# Altium schematic symbol library wifi_alarm_clock.SchLib: 19 symbols
Pins are listed as number, name and electrical type; pins without a type are passive.

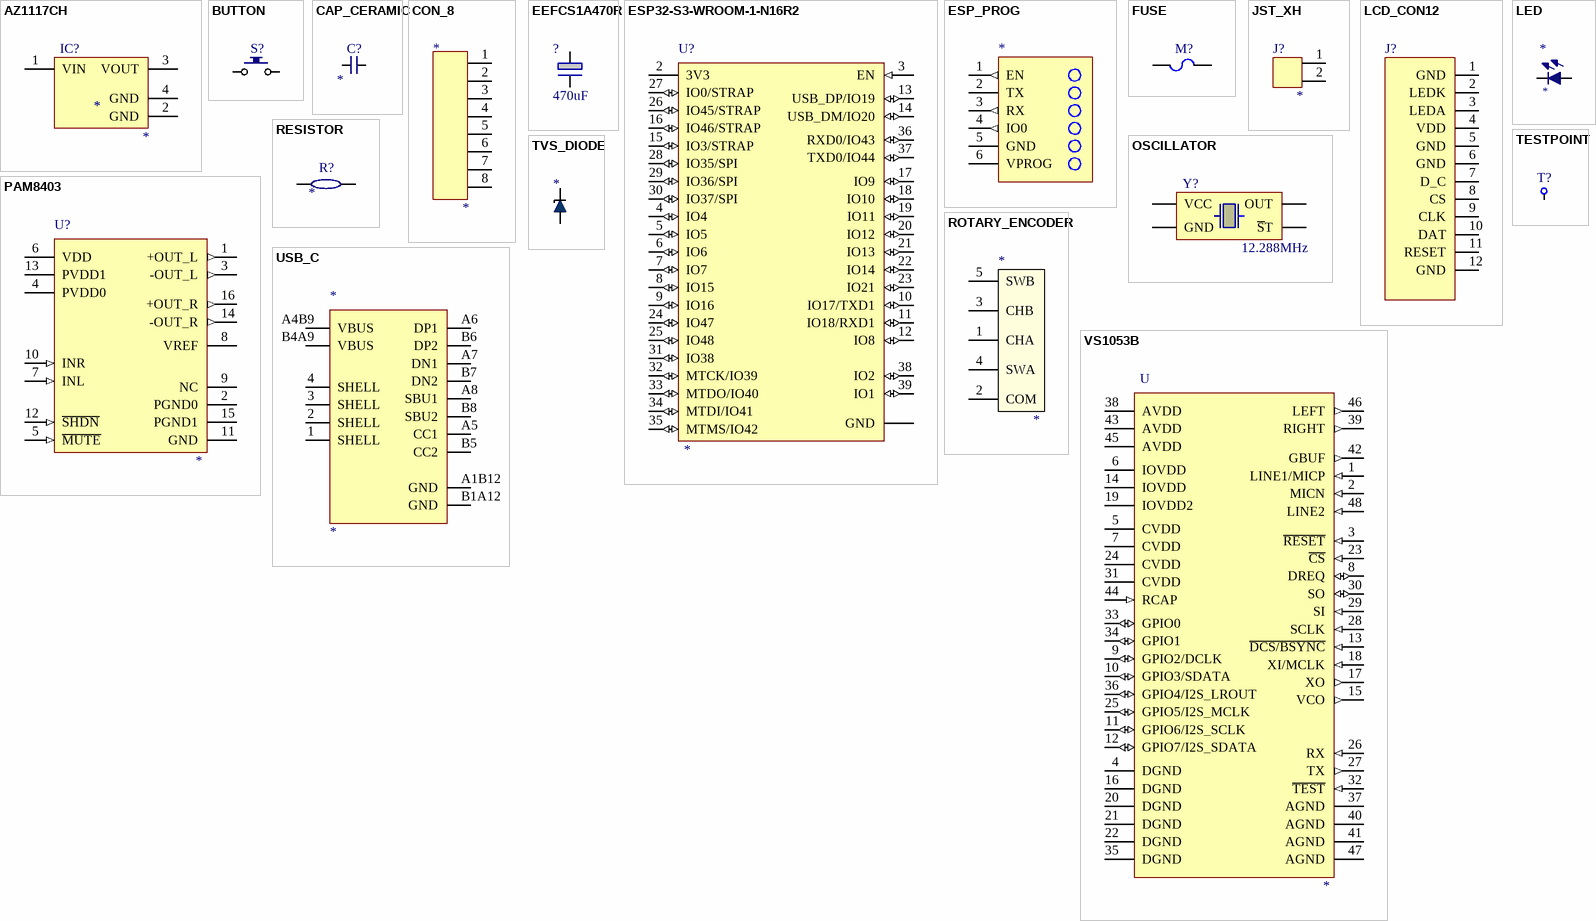
[diagram p0: symbols AZ1117CH to VS1053B]

## AZ1117CH
designator IC?
VOUT: *
footprint SOT230P700X180-4N (SOT223, 4-Leads, Body 6.50x7.00mm (avg), Pitch 2.30mm, IPC Medium Density)
pins: 1 VIN, 2 GND, 3 VOUT, 4 GND

## BUTTON
designator S?, comment 4-1437565-1  (value not drawn)
6x6mm tactile switch SPST_NO; Manufacturer_Name: TE Connectivity; Allied_Number: R1117787; RS Part Number: 1616046; Manufacturer_Part_Number: 4-1437565-1; Datasheet Link: http://uk.rs-online.com/web/p/products/1616046
footprint FSM-SWITCH
pins: 1, 2

## CAP_CERAMIC
designator C?
MLCC; Value: *; LCSC Part Number: *; Tolerance: *; Voltage: *; Package: *; Dielectric: *
footprint CAP 0805_2012 (Chip Capacitor, 2-Leads, Body 2.00x1.20mm, IPC Medium Density)
footprint CAP 0603_1608 (Chip Capacitor, 2-Leads, Body 1.60x0.80mm, IPC Medium Density)
footprint CAP 1210_3225 (Chip Capacitor, 2-Leads, Body 3.20x1.60mm, IPC High Density)
pins: 1 A, 2 B

## CON_8
designator *
footprint CON8
pins: 1, 2, 3, 4, 5, 6, 7, 8

## EEFCS1A470R
designator ?, comment 470uF
Electrolytic Capacitor; MPN: EEFCS1A470R; Voltage: 6.3V; Vendor: Panasonic; TYPE: Polymer; Value: 470uF
footprint CAPMP7343X11L (Molded Capacitor, 2-Leads, Body 7.30x4.30mm, IPC High Density)
pins: 1 +, 2 -

## ESP32-S3-WROOM-1-N16R2
designator U?
Bluetooth, WiFi 802.11b/g/n, Bluetooth v5.0 Transceiver Module 2.4GHz PCB Trace Surface Mount; MF: Espressif Systems; MP: ESP32S3WROOM1N16R2; SnapEDA_Link: https://www.snapeda.com/parts/ESP32S3WROOM1N16R2/Espressif+Systems/view-part/?ref=snap; Package: NON STANDARD Espressif Systems; Value: *; Check_prices: https://www.snapeda.com/parts/ESP32S3WROOM1N16R2/Espressif+Systems/view-part/?ref=eda
footprint XCVR_ESP32-S3-WROOM-1-N16R2
pins: 2 3V3 (power), 3 EN (in), 4 IO4 (io), 5 IO5 (io), 6 IO6 (io), 7 IO7 (io), 8 IO15 (io), 9 IO16 (io), 10 IO17/TXD1 (io), 11 IO18/RXD1 (io), 12 IO8 (io), 13 USB_DP/IO19 (io), 14 USB_DM/IO20 (io), 15 IO3/STRAP (io), 16 IO46/STRAP (io), 17 IO9 (io), 18 IO10 (io), 19 IO11 (io), 20 IO12 (io), 21 IO13 (io), 22 IO14 (io), 23 IO21 (io), 24 IO47 (io), 25 IO48 (io), 26 IO45/STRAP (io), 27 IO0/STRAP (io), 28 IO35/SPI (io), 29 IO36/SPI (io), 30 IO37/SPI (io), 31 IO38 (io), 32 MTCK/IO39 (io), 33 MTDO/IO40 (io), 34 MTDI/IO41 (io), 35 MTMS/IO42 (io), 36 RXD0/IO43 (io), 37 TXD0/IO44 (io), 38 IO2 (io), 39 IO1 (io), GND (power)

## ESP_PROG
designator *  (value not drawn)  (no BOM)
footprint IDC3X2
footprint ESP_PROG
pins: 1 EN (out), 2 TX, 3 RX (out), 4 IO0 (out), 5 GND, 6 VPROG

## FUSE
designator M?  (value not drawn)
footprint FUSE 0603_1608 0.5MM (Chip Fuse 1.5A AC 5V DC, 2-Leads, Body 1.54x0.85mm)
pins: 1, 2

## JST_XH
designator J?
footprint JST_XH_x2
pins: 1, 2

## LCD_CON12
designator J?  (value not drawn)
footprint LCD_CON12
pins: 1 GND, 2 LEDK, 3 LEDA, 4 VDD, 5 GND, 6 GND, 7 D_C, 8 CS, 9 CLK, 10 DAT, 11 RESET, 12 GND

## LED
designator *
LED; Value: *; LCSC Part Number: *
footprint SMT_LED 0603_RED (Chip Diode, 2-Leads, Body 1.60x0.80mm, IPC Medium Density)
footprint LED 5mm through hole (5MM through hole LED)
pins: 1 ANODE "TP", 2 CATHODE "TP"

## OSCILLATOR
designator Y?, comment 12.288MHz
SMT Crystal; Value: 12.288MHz
footprint NDK NX2520SA (Crystal, 4-Leads, Body 2.00x2.50mm, Pitch 1.70mm, IPC Medium Density)
footprint NDK NX3225GA (Crystal, 4-Leads, Body 2.50x3.20mm, Pitch 2.20mm, IPC Medium Density)
pins: 1 ~{S}T, 2 GND, 3 OUT, 4 VCC

## PAM8403
designator U?
Audio Amp Speaker 2-CH Stereo 3.2W Class-D 16-Pin SOP T/R; MP: PAM8403; MF: Diodes Zetex; Check_prices: https://www.snapeda.com/parts/PAM8403/Zetex/view-part/?ref=eda; Package: None; Value: *; Availability: In Stock; SnapEDA_Link: https://www.snapeda.com/parts/PAM8403/Zetex/view-part/?ref=snap; Price: None
footprint SOIC127P600X175-16N (SOIC, 16-Leads, Body 9.90x3.90mm, Pitch 1.27mm, IPC Medium Density)
pins: 1 +OUT_L (out), 2 PGND0 (power), 3 -OUT_L (out), 4 PVDD0 (power), 5 ~{MUTE} (in), 6 VDD (power), 7 INL (in), 8 VREF, 9 NC, 10 INR (in), 11 GND (power), 12 ~{SHDN} (in), 13 PVDD1 (power), 14 -OUT_R (out), 15 PGND1 (power), 16 +OUT_R (out)

## RESISTOR
designator R?
Resistor; Value: *; LCSC Part Number: *; Tolerance: *; Package: *; Power: *
footprint RES 0603_1608 (Chip Resistor, 2-Leads, Body 1.60x0.80mm, IPC Medium Density)
pins: 1 A, 2 B

## ROTARY_ENCODER
designator *
Rotary Encoder
footprint ENCODER (Rotary encoder)
pins: 1 CHA, 2 COM, 3 CHB, 4 SWA, 5 SWB

## TESTPOINT
designator T?  (value not drawn)
footprint TESTPOINT_1MM
footprint TESTPOINT_TH
pins: 1

## TVS_DIODE
designator *  (value not drawn)
footprint SODFL98X40-2L (SODFL, 0.6x1.0mm)
pins: 1 K, 2 A

## USB_C
designator *
footprint USB-C-SMD_G-SWITCH_GT-USB-7010ASV
pins: 1 SHELL, 2 SHELL, 3 SHELL, 4 SHELL, A1B12 GND, A4B9 VBUS, A5 CC1, A6 DP1, A7 DN1, A8 SBU1, B1A12 GND, B4A9 VBUS, B5 CC2, B6 DP2, B7 DN2, B8 SBU2

## VS1053B
designator U
VS1053B Music Maker Audio Feather Platform Evaluation Expansion Board; MF: SparkFun Electronics; MP: VS1053B; Price: None; SnapEDA_Link: https://www.snapeda.com/parts/VS1053B/SparkFun%20Electronics/view-part/525112/?ref=snap; Availability: Unavailable; Value: *; Package: None
footprint CQFP50P900X900X140-48N (CQFP, 48-Leads, Body 9.00x9.00mm, Pitch 0.50mm, IPC Medium Density)
pins: 1 LINE1/MICP (in), 2 MICN (in), 3 ~{RESET} (in), 4 DGND (power), 5 CVDD (power), 6 IOVDD (power), 7 CVDD (power), 8 DREQ (io), 9 GPIO2/DCLK (io), 10 GPIO3/SDATA (io), 11 GPIO6/I2S_SCLK (io), 12 GPIO7/I2S_SDATA (io), 13 ~{DCS/BSYNC} (in), 14 IOVDD (power), 15 VCO (out), 16 DGND (power), 17 XO (out), 18 XI/MCLK (in), 19 IOVDD2 (power), 20 DGND (power), 21 DGND (power), 22 DGND (power), 23 ~{CS} (in), 24 CVDD (power), 25 GPIO5/I2S_MCLK (io), 26 RX (in), 27 TX (out), 28 SCLK (in), 29 SI (in), 30 SO (io), 31 CVDD (power), 32 ~{TEST} (in), 33 GPIO0 (io), 34 GPIO1 (io), 35 DGND (power), 36 GPIO4/I2S_LROUT (io), 37 AGND (power), 38 AVDD (power), 39 RIGHT (out), 40 AGND (power), 41 AGND (power), 42 GBUF (out), 43 AVDD (power), 44 RCAP (in), 45 AVDD (power), 46 LEFT (out), 47 AGND (power), 48 LINE2 (in)